# EAGLE library part LAN_TRANSFORMER (library Eagle_CAD_parts)
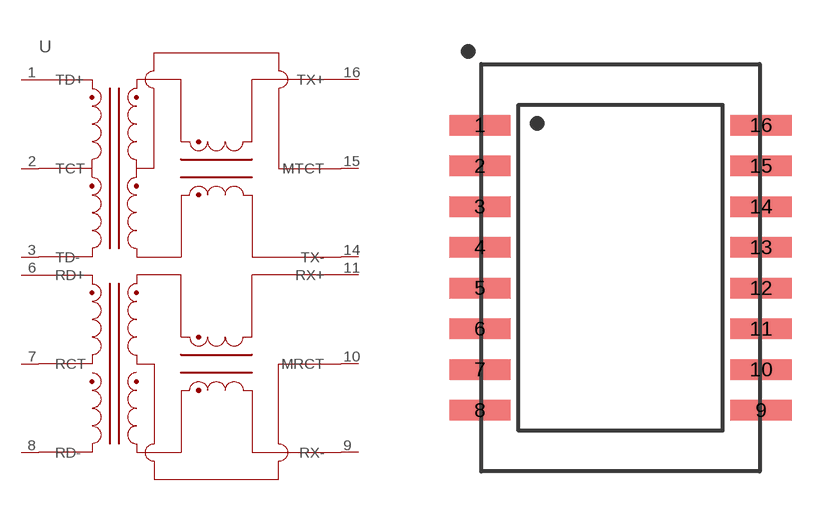
[diagram p82: symbol with the pads of LAN_TRANSFORMER_PCKG; footprint LAN_TRANSFORMER_PCKG]

Designator prefix U

## LAN_TRANSFORMER_SM41126EL (DIGIKEY_PART_NUMBER: 118-SM41126ELCT-ND; L: 350 uH; MANUFACTURER_PART_NUMBER: SM41126EL)  [LAN_TRANSFORMER_PCKG]
1  TD+
2  TCT
3  TD-
6  RD+
7  RCT
8  RD-
9  RX-
10  MRCT
11  RX+
14  TX-
15  MTCT
16  TX+

## Footprint LAN_TRANSFORMER_PCKG (pad centres in mm)
smd 1.905 x 0.64: 1 -4.383,4.445; 2 -4.383,3.175; 3 -4.383,1.905; 4 -4.383,0.635; 5 -4.383,-0.635; 6 -4.383,-1.905; 7 -4.383,-3.175; 8 -4.383,-4.445; 9 4.383,-4.445; 10 4.383,-3.175; 11 4.383,-1.905; 12 4.383,-0.635; 13 4.383,0.635; 14 4.383,1.905; 15 4.383,3.175; 16 4.383,4.445